# Altium footprint library IC_FSUSB42UMX.PcbLib: 1 footprints
Each footprint in its own frame and in the unit in brackets; x right, y up, seen from the top. Pads: shape width x height; smd on the part's side, far side on the other; paste and mask are expansions set on the pad; w line width, h text height; cw(c..) or ccw(c..) is an arc to the next point about the centre after c.
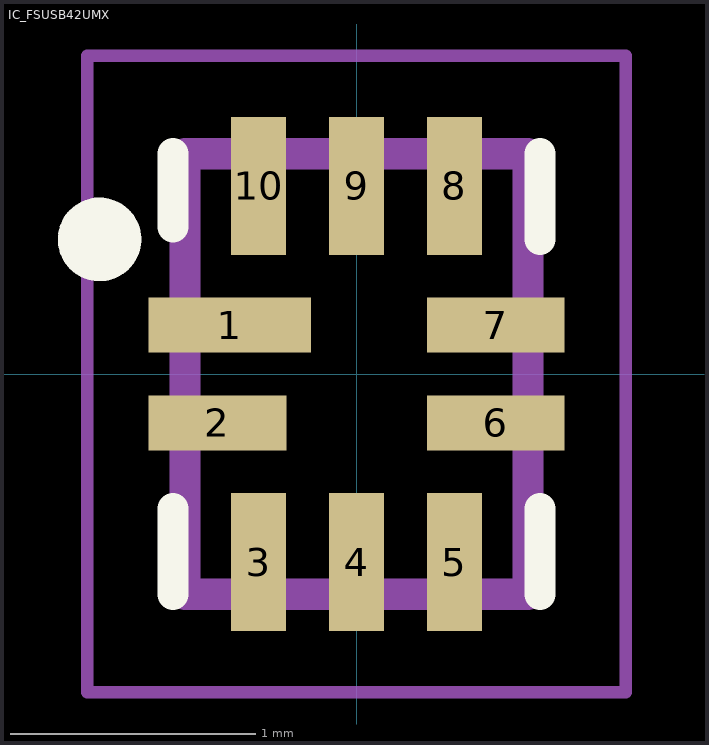
[diagram p0: the footprint, top view; thin cyan lines are the x and y axes]

## IC_FSUSB42UMX [mm]
pads (10):
  rect 0.663x0.225 smd: 1(-0.519,0.2)
  rect 0.563x0.225 smd: 2(-0.569,-0.2) 6(0.569,-0.2) 7(0.569,0.2)
  rect 0.225x0.563 smd: 3(-0.4,-0.768) 4(0,-0.768) 5(0.4,-0.768) 8(0.4,0.768) 9(0,0.768) 10(-0.4,0.768)
Top Overlay:
  circle w0.2: c-1.05,0.55 r0.071
  lines w0.127: -0.75,-0.9 -0.75,-0.55 ; -0.75,0.6 -0.75,0.9 ; 0.75,-0.9 0.75,-0.55 ; 0.75,0.55 0.75,0.9
Mechanical 13:
  lines w0.127: -0.7,-0.9 0.7,-0.9 0.7,0.9 -0.7,0.9 -0.7,-0.9
Mechanical 15:
  lines w0.05: -1.1,-1.3 -1.1,1.3 1.1,1.3 1.1,-1.3 -1.1,-1.3
3D body "step_temp.STEP": height 0.55, standoff 0, extent -0.7,-0.9 0.7,0.9